# Altium footprint library CanRotor_Mini(PCB).PcbLib: 22 footprints (part 1 of 2)
Each footprint in its own frame and in the unit in brackets; x right, y up, seen from the top. Pads: shape width x height; smd on the part's side, far side on the other; paste and mask are expansions set on the pad; w line width, h text height; cw(c..) or ccw(c..) is an arc to the next point about the centre after c.
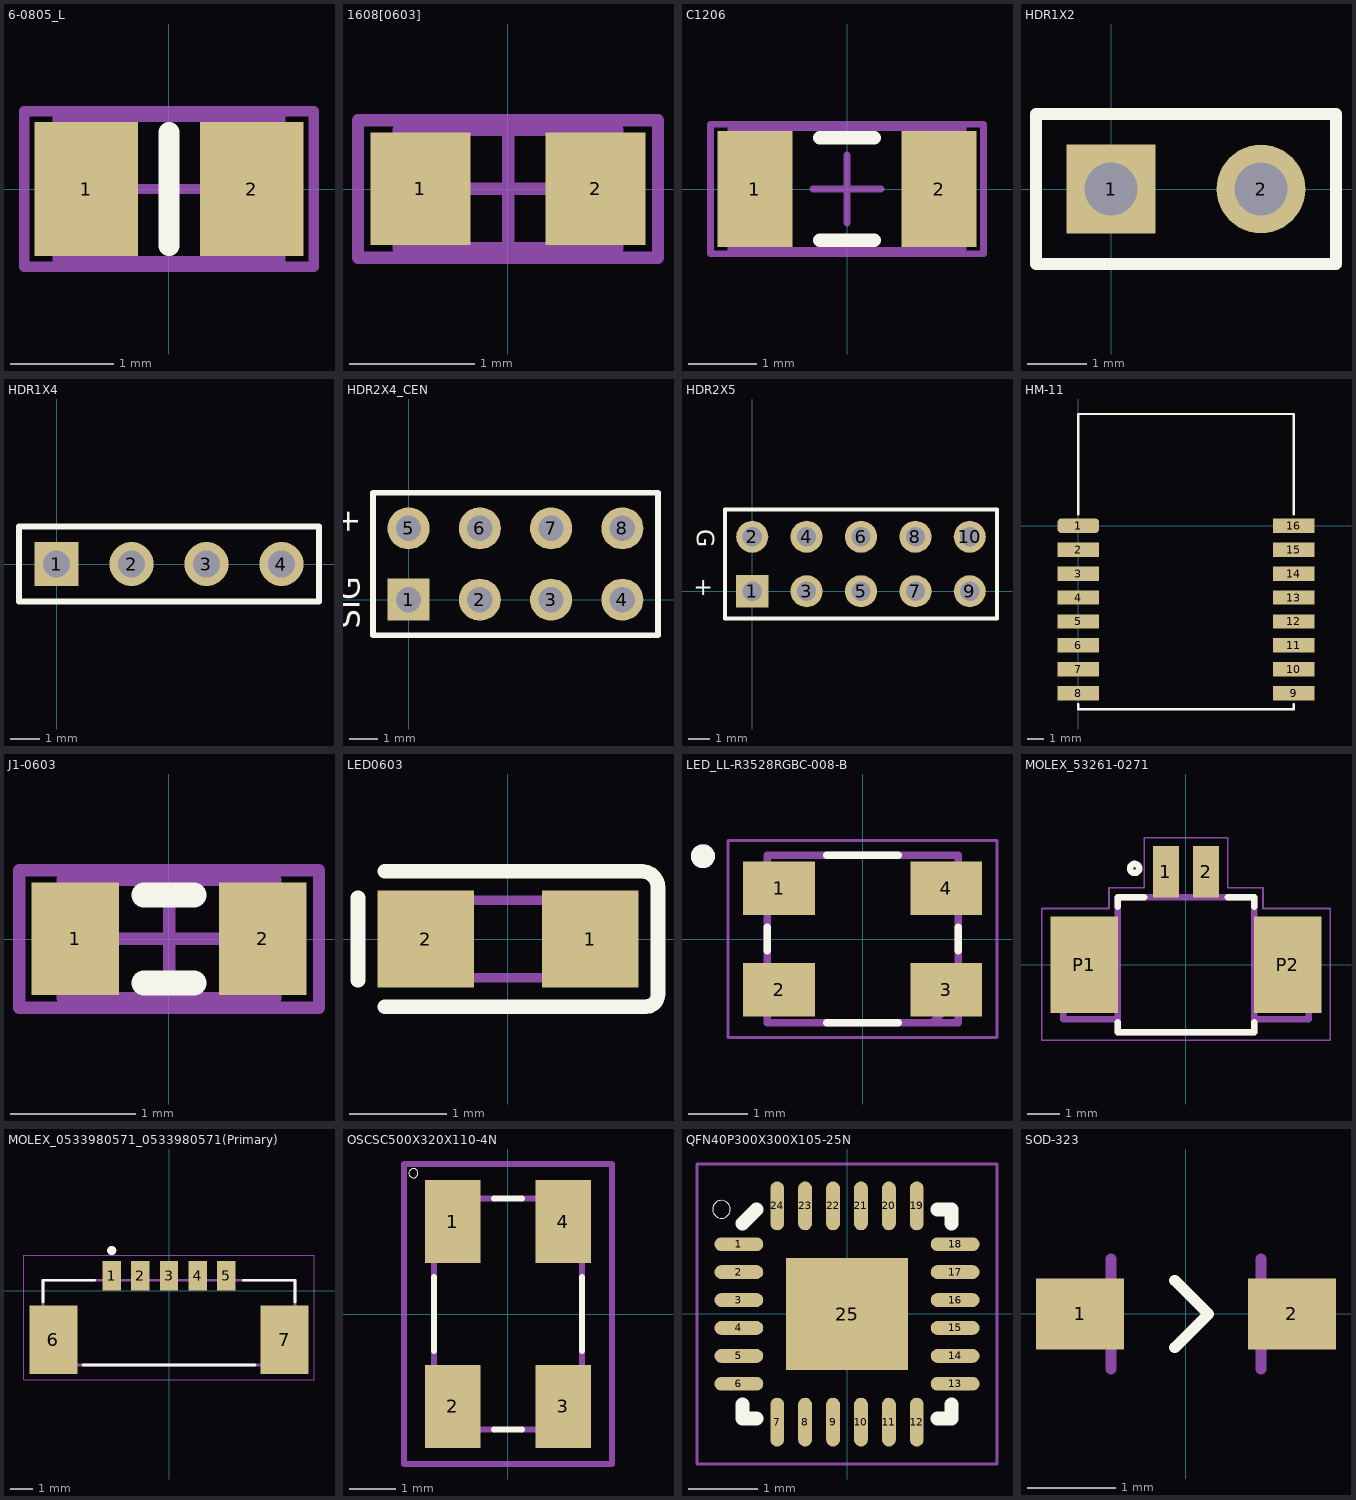
[diagram p0: the footprints below, top view; thin cyan lines are the x and y axes]

## 6-0805_L [mm]
pads (2):
  rect 1x1.3 smd: 1(-0.8,0) 2(0.8,0)
Top Overlay:
  lines w0.2: 0,-0.55 0,0.55
Mechanical 13:
  lines w0.1: -1.075,-0.7 1.075,-0.7 1.075,0.7 -1.075,0.7 -1.075,-0.7
Mechanical 15:
  lines w0.1: -0.5,0 0.5,0 ; 0,-0.5 0,0.5 ; -1.4,-0.75 1.4,-0.75 1.4,0.75 -1.4,0.75 -1.4,-0.75
3D body: height 0.7, standoff 0, extent -1.075,-0.7 1.075,0.7

## 1608[0603] [mm]
pads (2):
  rect 0.8x0.9 smd: 1(-0.7,0) 2(0.7,0)
Mechanical 13:
  lines w0.1: -0.875,-0.475 0.875,-0.475 0.875,0.475 -0.875,0.475 -0.875,-0.475
Mechanical 15:
  lines w0.1: -0.475,0 0.475,0 ; 0,-0.475 0,0.475 ; -1.2,-0.55 1.2,-0.55 1.2,0.55 -1.2,0.55 -1.2,-0.55
3D body: height 1.3, standoff 0, extent -0.875,-0.475 0.875,0.475

## C1206 [mm]
pads (2):
  rect 1.1x1.7 smd: 1(-1.35,0) 2(1.35,0)
Top Overlay:
  lines w0.2: -0.4,-0.75 0.4,-0.75 ; -0.4,0.75 0.4,0.75
Mechanical 13:
  lines w0.1: -1.7,-0.9 1.7,-0.9 1.7,0.9 -1.7,0.9 -1.7,-0.9
Mechanical 15:
  lines w0.1: -0.5,0 0.5,0 ; 0,-0.5 0,0.5 ; -2,-0.95 2,-0.95 2,0.95 -2,0.95 -2,-0.95
3D body "User Library-CaseA.SLDPRT": height 1.65, standoff -0.01, extent -1.731,-0.8 1.732,0.8

## HDR1X2 [mm]
pads (2):
  rect 1.5x1.5 hole 0.9: 1(0,0)
  round 1.5 hole 0.9: 2(2.54,0)
Top Overlay:
  lines w0.2: -1.27,-1.27 3.81,-1.27 3.81,1.27 -1.27,1.27 -1.27,-1.27
3D body "User Library-Header Single Pin.SLDPRT": height 6.54, standoff -2.46, extent 1.27,-1.27 3.81,1.27
3D body "User Library-Header Single Pin.SLDPRT": height 6.54, standoff -2.46, extent -1.27,-1.27 1.27,1.27

## HDR1X4 [mm]
pads (4):
  rect 1.5x1.5 hole 0.9: 1(0,0)
  round 1.5 hole 0.9: 2(2.54,0) 3(5.08,0) 4(7.62,0)
Top Overlay:
  lines w0.2: -1.27,-1.27 8.89,-1.27 8.89,1.27 -1.27,1.27 -1.27,-1.27
3D body "User Library-Header Single Pin.SLDPRT": height 6.54, standoff -2.46, extent -1.27,-1.27 1.27,1.27
3D body "User Library-Header Single Pin.SLDPRT": height 6.54, standoff -2.46, extent 1.27,-1.27 3.81,1.27
3D body "User Library-Header Single Pin.SLDPRT": height 6.54, standoff -2.46, extent 3.81,-1.27 6.35,1.27
3D body "User Library-Header Single Pin.SLDPRT": height 6.54, standoff -2.46, extent 6.35,-1.27 8.89,1.27

## HDR2X4_CEN [mm]
pads (8):
  rect 1.5x1.5 hole 0.9: 1(0,0)
  round 1.5 hole 0.9: 2(2.54,0) 3(5.08,0) 4(7.62,0) 5(0,2.54) 6(2.54,2.54) 7(5.08,2.54) 8(7.62,2.54)
Top Overlay:
  lines w0.2: -1.27,-1.27 8.89,-1.27 8.89,3.81 -1.27,3.81 -1.27,-1.27
  text "+" at -1.803,2.337 h0.8
  text "SIG" at -1.738,-1.041 h0.8
3D body "User Library-Header Single Pin.SLDPRT": height 6.54, standoff -2.46, extent 6.35,-1.27 8.89,1.27
3D body "User Library-Header Single Pin.SLDPRT": height 6.54, standoff -2.46, extent 6.35,1.27 8.89,3.81
3D body "User Library-Header Single Pin.SLDPRT": height 6.54, standoff -2.46, extent -1.27,1.27 1.27,3.81
3D body "User Library-Header Single Pin.SLDPRT": height 6.54, standoff -2.46, extent -1.27,-1.27 1.27,1.27
3D body "User Library-Header Single Pin.SLDPRT": height 6.54, standoff -2.46, extent 1.27,1.27 3.81,3.81
3D body "User Library-Header Single Pin.SLDPRT": height 6.54, standoff -2.46, extent 1.27,-1.27 3.81,1.27
3D body "User Library-Header Single Pin.SLDPRT": height 6.54, standoff -2.46, extent 3.81,1.27 6.35,3.81
3D body "User Library-Header Single Pin.SLDPRT": height 6.54, standoff -2.46, extent 3.81,-1.27 6.35,1.27

## HDR2X5 [mm]
pads (10):
  rect 1.5x1.5 hole 0.9: 1(0,0)
  round 1.5 hole 0.9: 2(0,2.54) 3(2.54,0) 4(2.54,2.54) 5(5.08,0) 6(5.08,2.54) 7(7.62,0) 8(7.62,2.54) 9(10.16,0) 10(10.16,2.54)
Top Overlay:
  lines w0.2: -1.27,-1.27 11.43,-1.27 11.43,3.81 -1.27,3.81 -1.27,-1.27
  text "+" at -1.829,0.508 h0.8
  text "G" at -2.578,2.885 h0.8
3D body "User Library-Header Single Pin.SLDPRT": height 6.54, standoff -2.46, extent 8.89,-1.269 11.43,1.271
3D body "User Library-Header Single Pin.SLDPRT": height 6.54, standoff -2.46, extent 8.89,1.27 11.43,3.81
3D body "User Library-Header Single Pin.SLDPRT": height 6.54, standoff -2.46, extent 6.35,-1.27 8.89,1.27
3D body "User Library-Header Single Pin.SLDPRT": height 6.54, standoff -2.46, extent 6.35,1.27 8.89,3.81
3D body "User Library-Header Single Pin.SLDPRT": height 6.54, standoff -2.46, extent 3.81,-1.27 6.35,1.27
3D body "User Library-Header Single Pin.SLDPRT": height 6.54, standoff -2.46, extent 3.81,1.27 6.35,3.81
3D body "User Library-Header Single Pin.SLDPRT": height 6.54, standoff -2.46, extent 1.27,-1.27 3.81,1.27
3D body "User Library-Header Single Pin.SLDPRT": height 6.54, standoff -2.46, extent 1.27,1.27 3.81,3.81
3D body "User Library-Header Single Pin.SLDPRT": height 6.54, standoff -2.46, extent -1.27,-1.27 1.27,1.27
3D body "User Library-Header Single Pin.SLDPRT": height 6.54, standoff -2.46, extent -1.27,1.27 1.27,3.81

## HM-11 [mm]
pads (16):
  rrect50% 2.6x0.9 smd: 1(0,0)
  rect 2.6x0.9 smd: 2(0,-1.5) 3(0,-3) 4(0,-4.5) 5(0,-6) 6(0,-7.5) 7(0,-9) 8(0,-10.5) 9(13.5,-10.5) 10(13.5,-9) 11(13.5,-7.5) 12(13.5,-6) 13(13.5,-4.5) 14(13.5,-3) 15(13.5,-1.5) 16(13.5,0)
Top Overlay:
  lines w0.15: 0,-11.2 0,-11.5 13.5,-11.5 13.5,-11.2 ; 0,0.7 0,7 13.5,7 13.5,0.7

## J1-0603 [mm]
pads (2):
  rect 0.7x0.9 smd: 1(-0.75,0) 2(0.75,0)
Top Overlay:
  lines w0.2: -0.2,-0.35 0.2,-0.35 ; -0.2,0.35 0.2,0.35
Mechanical 13:
  lines w0.1: -0.85,-0.475 -0.85,0.475 0.85,0.475 0.85,-0.475 -0.85,-0.475
Mechanical 15:
  lines w0.1: -0.475,0 0.475,0 ; 0,-0.475 0,0.475 ; -1.2,-0.55 -1.2,0.55 1.2,0.55 1.2,-0.55 -1.2,-0.55
3D body: height 0.9, standoff 0, extent -0.85,-0.475 0.85,0.475

## LED0603 [mm]
pads (2):
  rect 1x1 smd paste+0 mask+0: 1(0.85,0) 2(-0.85,0)
Top Overlay:
  lines w0.15: -1.55,-0.425 -1.55,0.425 ; -1.275,-0.699 1.426,-0.699 ccw(c1.426,-0.573) 1.552,-0.573 1.552,0.535 ccw(c1.387,0.535) 1.387,0.699 ; -1.275,0.699 1.387,0.699
Mechanical 7:
  lines w0.1: -0.8,-0.4 -0.8,0.4 0.8,0.4 0.8,-0.4 -0.8,-0.4
3D body: height 0.1, standoff 0, extent -0.8,-0.4 0.8,0.4
3D body: height 0.2, standoff 0.15, extent -0.254,-0.254 0.254,0.254
3D body: height 0.25, standoff 0.1, extent -0.6,-0.4 0.6,0.4

## LED_LL-R3528RGBC-008-B [mm]
pads (4):
  rect 1.2x0.9 smd: 1(-1.4,0.85) 2(-1.4,-0.85) 3(1.4,-0.85) 4(1.4,0.85)
Top Overlay:
  circle w0.2: c-2.673,1.386 r0.1
  lines w0.127: -1.6,-0.2 -1.6,0.2 ; -0.6,-1.4 0.6,-1.4 ; -0.6,1.4 0.6,1.4 ; 1.6,-0.2 1.6,0.2
Mechanical 4:
  circle w0.2: c-2.673,1.386 r0.1
  circle w0.2: c-2.673,1.386 r0.1
  lines w0.127: -1.6,-1.4 -1.6,1.4 ; -1.6,-1.4 1.17,-1.4 ; -1.6,-1.4 -1.6,1.4 ; -1.6,-1.4 1.17,-1.4 ; -1.6,1.4 1.6,1.4 ; -1.6,1.4 1.6,1.4 ; 1.17,-1.4 1.6,-1.4 ; 1.17,-1.4 1.6,-0.96 ; 1.17,-1.4 1.6,-1.4 ; 1.17,-1.4 1.6,-0.96 ; 1.6,-1.4 1.6,-0.96 ; 1.6,-1.4 1.6,-0.96 ; 1.6,-0.96 1.6,1.4 ; 1.6,-0.96 1.6,1.4
Mechanical 16:
  lines w0.05: -2.25,-1.65 -2.25,1.65 2.25,1.65 2.25,-1.65 -2.25,-1.65
3D body "LL-R3528RGBC-008-B--3DModel-STEP-56544.STEP": height 2.07, standoff -0.03, extent -1.75,-1.4 1.75,1.4

## MOLEX_53261-0271 [mm]
pads (4):
  rect 0.8x1.6 smd: 1(-0.625,2.9) 2(0.625,2.9)
  rect 2.1x3 smd: P1(-3.175,0) P2(3.175,0)
Top Overlay:
  circle w0.2: c-1.6,3 r0.141
  lines w0.2: -2.125,-1.8 -2.125,-2.1 2.125,-2.1 2.125,-1.8 ; -2.125,1.8 -2.125,2.1 -1.3,2.1 ; 1.3,2.1 2.125,2.1 2.125,1.8
Mechanical 1:
  lines w0.05: -4.5,-2.35 4.5,-2.35 4.5,1.75 2.4,1.75 2.4,2.4 1.3,2.4 1.3,3.95 -1.3,3.95 -1.3,2.4 -2.4,2.4 -2.4,1.75 -4.5,1.75 -4.5,-2.35
  lines w0.2: -2.125,-1.7 -2.125,-2.1 2.125,-2.1 2.125,-1.7 ; -2.125,-1.7 -2.125,1.1 ; -2.125,-1.7 -3.825,-1.7 -3.825,1.1 -2.125,1.1 ; -2.125,1.1 -2.125,2.1 2.125,2.1 2.125,1.1 ; 2.125,-1.7 2.125,1.1 ; 2.125,-1.7 3.825,-1.7 3.825,1.1 2.125,1.1
3D body "User Library-molex 53261 white.SLDPRT": height 3.5, standoff 0, extent -3.825,-2.1 3.825,3.1

## MOLEX_0533980571_0533980571(Primary) [mm]
pads (7):
  rect 0.8x1.3 smd: 1(-2.5,0.65) 2(-1.25,0.65) 3(0,0.65) 4(1.25,0.65) 5(2.5,0.65)
  rect 2.1x3 smd: 6(-5.05,-2.15) 7(5.05,-2.15)
Top Overlay:
  circle w0.2: c-2.5,1.75 r0.1
  lines w0.127: -5.5,-0.5 -5.5,0.45 -3.25,0.45 ; -3.75,-3.25 3.75,-3.25 ; 3.25,0.45 5.5,0.45 5.5,-0.5
Mechanical 4:
  lines w0.127: -5.5,-3.25 5.5,-3.25 ; -5.5,-3.25 -5.5,0.45 ; -5.5,-3.25 5.5,-3.25 ; -5.5,-3.25 -5.5,0.45 ; -5.5,0.45 5.5,0.45 ; -5.5,0.45 5.5,0.45 ; 5.5,-3.25 5.5,0.45 ; 5.5,-3.25 5.5,0.45
Mechanical 16:
  lines w0.05: -6.35,-3.9 6.35,-3.9 6.35,1.55 -6.35,1.55 -6.35,-3.9
3D body "User Library-molex 53398 white.SLDPRT": height 4.65, standoff -0.05, extent -5.7,-3.251 5.7,0.949

## OSCSC500X320X110-4N [mm]
pads (4):
  rect 1.2x1.8 smd: 1(-1.2,2) 2(-1.2,-2) 3(1.2,-2) 4(1.2,2)
Top Overlay:
  circle w0: c-2.05,3.05 r0.1
  lines w0.127: -1.6,-0.8 -1.6,0.8 ; -0.3,-2.5 0.3,-2.5 ; -0.3,2.5 0.3,2.5 ; 1.6,-0.8 1.6,0.8
Mechanical 1:
  lines w0.127: -1.6,-0.8 -1.6,-2.2 cw(c-1.6,-2.5) -1.3,-2.5 -0.3,-2.5 ; -1.6,0.8 -1.6,2.2 ccw(c-1.6,2.5) -1.3,2.5 -0.3,2.5 ; 0.3,-2.5 1.3,-2.5 cw(c1.6,-2.5) 1.6,-2.2 1.6,-0.8 ; 0.3,2.5 1.3,2.5 ccw(c1.6,2.5) 1.6,2.2 1.6,0.8 ; -2.25,-3.25 -2.25,3.25 2.25,3.25 2.25,-3.25 -2.25,-3.25
3D body "User Library-ABM3B_BASE.SLDPRT": height 0.15, standoff 0.05, extent -1.5,-2.4 1.5,2.4
3D body "User Library-ABM3B_PIN_2_3_4.SLDPRT": height 0.1, standoff 0, extent 0.8,-2.6 1.6,-1.4
3D body "User Library-ABM3B_PIN_2_3_4.SLDPRT": height 0.1, standoff 0, extent -1.6,-2.6 -0.8,-1.4
3D body "User Library-ABM3B_PIN_2_3_4.SLDPRT": height 0.1, standoff 0, extent 0.8,1.4 1.6,2.6
3D body "User Library-ABM3B_PIN_2_3_4.SLDPRT": height 0.1, standoff 0, extent -1.6,1.4 -0.8,2.6
3D body "User Library-ABM3B_TAMPA.SLDPRT": height 0.43, standoff 0.25, extent -1.4,-2.3 1.4,2.3

## QFN40P300X300X105-25N [mm]
pads (25):
  oval 0.7x0.2 smd: 1(-1.55,1) 2(-1.55,0.6) 3(-1.55,0.2) 4(-1.55,-0.2) 5(-1.55,-0.6) 6(-1.55,-1) 13(1.55,-1) 14(1.55,-0.6) 15(1.55,-0.2) 16(1.55,0.2) 17(1.55,0.6) 18(1.55,1)
  oval 0.2x0.7 smd: 7(-1,-1.55) 8(-0.6,-1.55) 9(-0.2,-1.55) 10(0.2,-1.55) 11(0.6,-1.55) 12(1,-1.55) 19(1,1.55) 20(0.6,1.55) 21(0.2,1.55) 22(-0.2,1.55) 23(-0.6,1.55) 24(-1,1.55)
  rect 1.75x1.6 smd: 25(0,0)
Top Overlay:
  circle w0: c-1.8,1.5 r0.127
  lines w0.2: -1.5,-1.3 -1.5,-1.5 -1.3,-1.5 ; -1.5,1.3 -1.3,1.5 ; 1.3,-1.5 1.5,-1.5 1.5,-1.3 ; 1.3,1.5 1.5,1.5 1.5,1.3
Mechanical 1:
  lines w0.05: -2.15,-2.15 -2.15,2.15 2.15,2.15 2.15,-2.15 -2.15,-2.15
3D body "User Library-MPU9250.SLDPRT": height 1, standoff -0.05, extent -1.51,-1.51 1.51,1.51

## SOD-323 [mm]
pads (2):
  rect 1x0.8 smd: 1(-1.2,0) 2(1.2,0)
Top Overlay:
  lines w0.127: -0.127,-0.381 0.254,0 -0.127,0.381
Mechanical 4:
  lines w0.127: -0.85,-0.625 -0.85,0.625 -0.85,-0.625 ; 0.85,-0.625 0.85,0.625 0.85,-0.625
3D body "User Library-SOD323-1.SLDPRT": height 1.07, standoff -0.03, extent -1.3,-0.675 1.3,0.675